# EAGLE library part CH340K (library CH340)
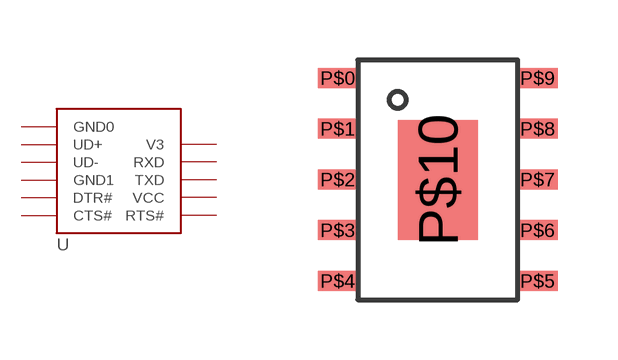
[diagram p0: symbol with the pads of ESSOP10; footprint ESSOP10]

Designator prefix -

## CH340K  [ESSOP10]
P$0  UD+
P$1  UD-
P$2  GND1
P$3  DTR#
P$4  CTS#
P$5  RTS#
P$6  VCC
P$7  TXD
P$8  RXD
P$9  V3
P$10  GND0

## Footprint ESSOP10 (pad centres in mm)
smd 1 x 0.5: P$0 -2.5,2.55; P$1 -2.5,1.28; P$2 -2.5,0.01; P$3 -2.5,-1.26; P$4 -2.5,-2.53; P$5 2.5,-2.53; P$6 2.5,-1.26; P$7 2.5,0.01; P$8 2.5,1.28; P$9 2.5,2.55
smd 2 x 3: P$10 0,0